# Altium footprint library Geiger.PcbLib: 14 footprints
Each footprint in its own frame and in the unit in brackets; x right, y up, seen from the top. Pads: shape width x height; smd on the part's side, far side on the other; paste and mask are expansions set on the pad; w line width, h text height; cw(c..) or ccw(c..) is an arc to the next point about the centre after c.
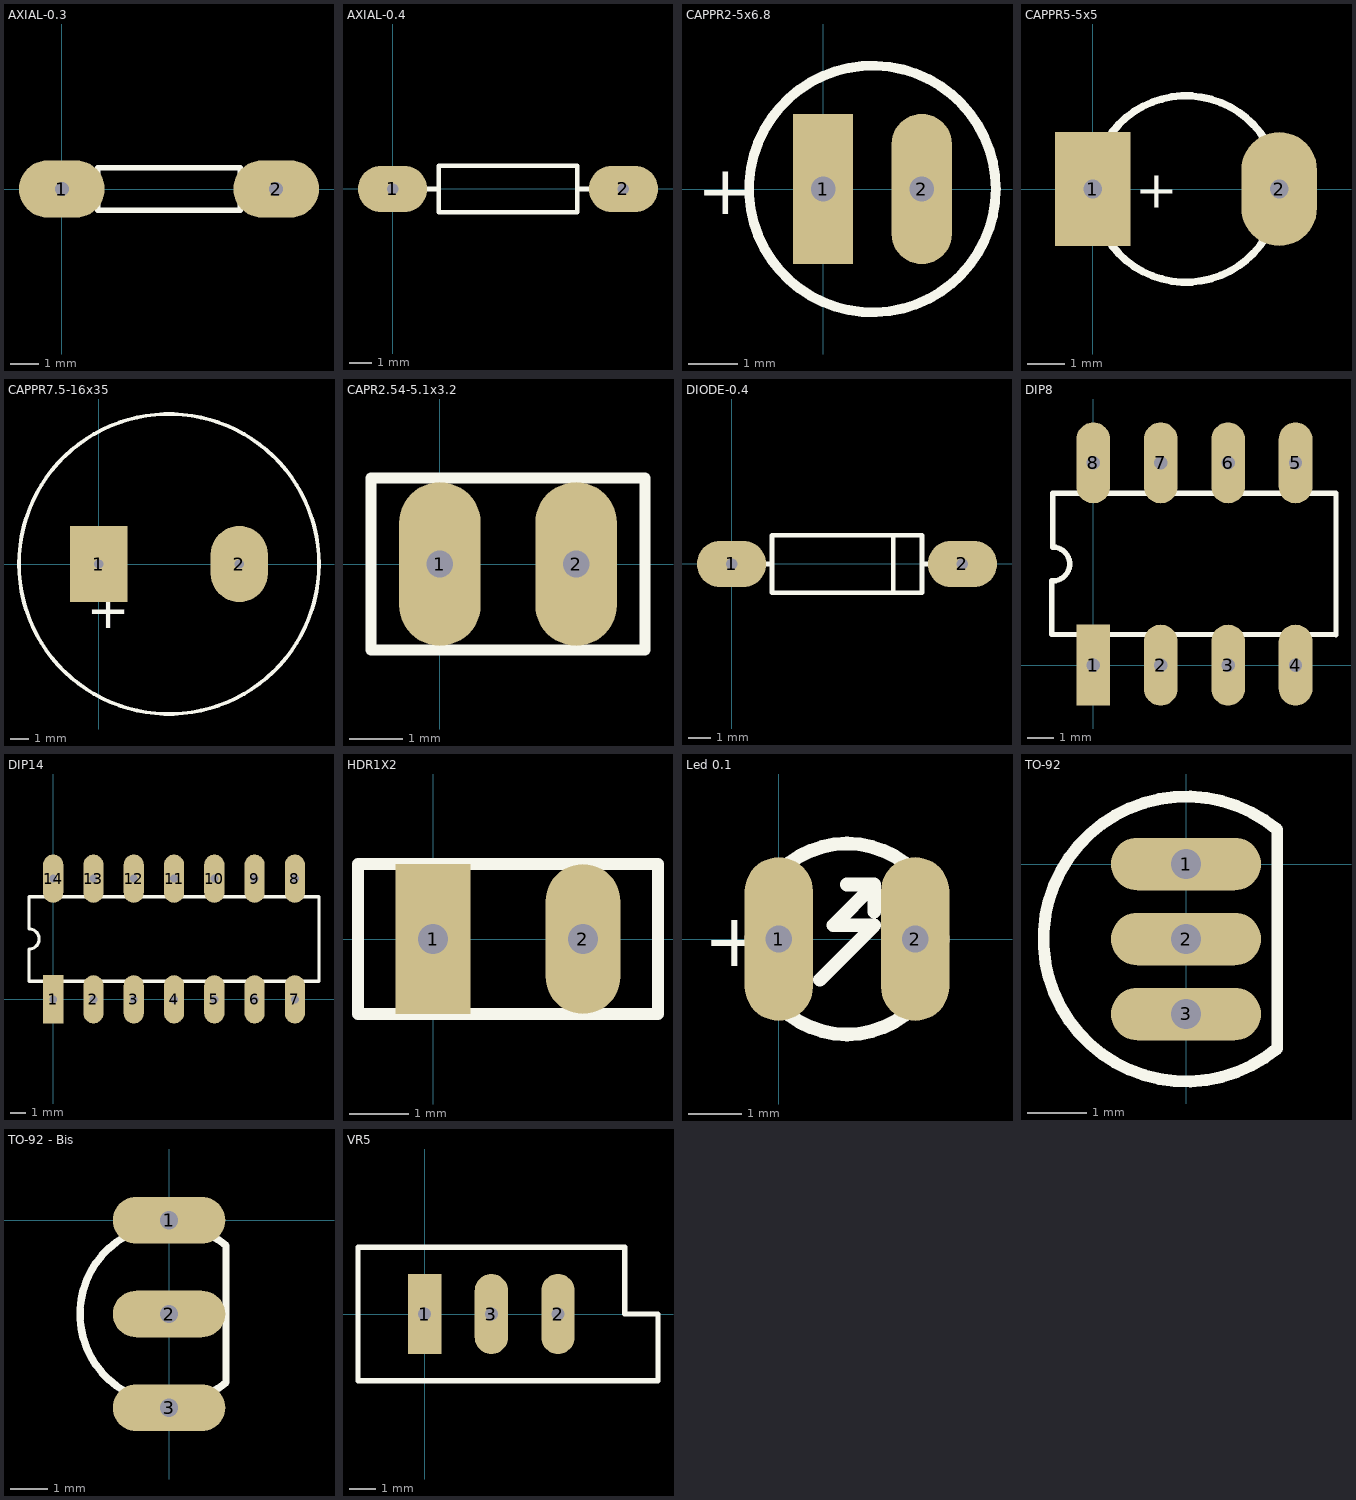
[diagram p0: the footprints below, top view; thin cyan lines are the x and y axes]

## AXIAL-0.3 [mil] "Resistor; 2 Leads"
height 60
pads (2):
  oval 120x80 hole 19.68 paste+0 mask+0: 1(0,0) 2(300,0)
Top Overlay:
  lines w7.87: 41,0 50,0 ; 259,0 250,0 ; 250,0 250,30 50,30 50,-30 250,-30 250,0

## AXIAL-0.4 [mil] "Resistor; 2 Leads"
height 80
pads (2):
  oval 120x80 hole 19.68 paste+0 mask+0: 1(0,0) 2(400,0)
Top Overlay:
  lines w7.87: 40,0 80,0 ; 320,0 360,0 ; 80,-40 320,-40 320,40 80,40 80,-40

## CAPPR2-5x6.8 [mil] "Capacitor, Electrolytic, Radial; Body 5 x 6.8 mm (Dia.xH typ); Pin Spacing 2 mm (typ)"
pads (2):
  rect 48x120 hole 19.68 paste+0 mask+0: 1(0,0)
  oval 48x120 hole 19.68 paste+0 mask+0: 2(78.74,0)
Top Overlay:
  circle w7.87: c39.37,0 r98.43
  text "+" at -100.63,-20 h39.37

## CAPPR5-5x5 [mil] "Capacitor, Electrolytic, Radial; Body 5 x 5 mm (Dia.xH typ); Pin Spacing 5 mm (typ)"
pads (2):
  rect 80x120 hole 19.68 paste+0 mask+0: 1(0,0)
  oval 80x120 hole 19.68 paste+0 mask+0: 2(196.85,0)
Top Overlay:
  lines w7.87: 9.56,-42.32 ccw(c98.43,0) 187.75,-41.33 ; 9.56,42.32 cw(c98.43,0) 187.75,41.33
  text "+" at 45,-20 h39.37

## CAPPR7.5-16x35 [mil] "Capacitor, Electrolytic, Radial; Body 16 x 35 mm (Dia.xH typ); Pin Spacing 7.5 mm (typ)"
pads (2):
  rect 120x160 hole 19.68 paste+0 mask+0: 1(0,0)
  oval 120x160 hole 19.68 paste+0 mask+0: 2(295.28,0)
Top Overlay:
  circle w7.87: c147.64,0 r314.96
  text "+" at -25,-135 h78.74

## CAPR2.54-5.1x3.2 [mil] "Capacitor, Ceramic, Thru-Hole, Dipped Radial; Body 5.1 x 3.2 mm (WxT) Pin Spacing 2.54 mm (typ)"
height 236.22
pads (2):
  oval 60x120 hole 19.68 paste+0 mask+0: 1(0,0) 2(100,0)
Top Overlay:
  lines w7.87: -50.39,-62.99 -50.39,62.99 150.39,62.99 150.39,-62.99 -50.39,-62.99

## DIODE-0.4 [mil] "Tunnel Diode - Dependent Source Model; 2 Leads"
height 100
pads (2):
  oval 120x80 hole 19.68 paste+0 mask+0: 1(0,0) 2(400,0)
Top Overlay:
  lines w7.87: 40,0 70,0 ; 280,-50 280,50 ; 330,0 360,0 ; 70,-50 70,50 330,50 330,-50 70,-50

## DIP8 [mil] "DIP; 8 Leads; Row Spacing 7.62 mm; Pitch 2.54 mm"
height 200
pads (8):
  rect 50x120 hole 19.68 paste+0 mask+0: 1(0,0)
  oval 50x120 hole 19.68 paste+0 mask+0: 2(100,0) 3(200,0) 4(300,0) 5(300,300) 6(200,300) 7(100,300) 8(0,300)
Top Overlay:
  lines w7.87: -61.53,125 -61.53,45.67 360,45 360,255 -60,255 -60,175 cw(c-60,150) -60,125

## DIP14 [mil] "DIP; 14 Leads; Row Spacing 7.62 mm; Pitch 2.54 mm"
height 200
pads (14):
  rect 50x120 hole 19.68 paste+0 mask+0: 1(0,0)
  oval 50x120 hole 19.68 paste+0 mask+0: 2(100,0) 3(200,0) 4(300,0) 5(400,0) 6(500,0) 7(600,0) 8(600,300) 9(500,300) 10(400,300) 11(300,300) 12(200,300) 13(100,300) 14(0,300)
Top Overlay:
  lines w7.87: -60,45 -60,125 ccw(c-60,150) -60,175 -60,255 660,255 660,45 -60,45

## HDR1X2 [mm] "Connector; Header; 2 Position"
pads (2):
  rect 1.27x2.54 hole 0.5 paste+0 mask+0: 1(0,0)
  oval 1.27x2.54 hole 0.5 paste+0 mask+0: 2(2.54,0)
Top Overlay:
  lines w0.2: -1.27,-1.27 -1.27,1.27 3.81,1.27 3.81,-1.27 -1.27,-1.27

## Led 0.1 [mil] "Led Verticale"
height 314.96
pads (2):
  oval 50x120 hole 19.68 paste+0 mask+0: 1(0,0) 2(100,0)
Top Overlay:
  circle w10: c50,0 r70
  lines w10: 30,-30 70,10 40,10 70,40 ; 50,40 70,40 ; 70,20 70,40
  text "+" at -55,-20 h39.37

## TO-92 [mil] "TO, Flat Index; 3 In-Line, Axial Leads; Body Dia. 4.6mm; Leads 0.48 x 0.43 mm (max) NOT ECAM RULES"
height 195
pads (3):
  oval 100x35 hole 19.68 paste+0 mask+0: 1(0,0) 2(0,-50) 3(0,-100)
Top Overlay:
  lines w7.87: 60.82,-122.98 cw(c0,-50) 60.82,22.98 60.82,-122.98

## TO-92 - Bis [mil] "TO, Flat Index; 3 In-Line, Axial Leads; Body Dia. 4.6mm; Leads 0.48 x 0.43 mm (max)"
height 195
pads (3):
  oval 120x50 hole 19.68 paste+0 mask+0: 1(0,0) 2(0,-100) 3(0,-200)
Top Overlay:
  lines w7.87: 60.82,-172.98 cw(c0,-100) 60.82,-27.02 60.82,-172.98

## VR5 [mil] "Potentiometer; 3 Leads"
height 196.85
pads (3):
  rect 50x120 hole 19.68 paste+0 mask+0: 1(0,0)
  oval 50x120 hole 19.68 paste+0 mask+0: 2(200,0) 3(100,0)
Top Overlay:
  lines w7.87: -100,-100 -100,100 300,100 300,0 350,0 350,-100 -100,-100